# EAGLE library part ATXMEGA128B3 (library atmega-atxmega)
8/16-bit XMEGA B3 Microcontroller Features High-performance, low-power Atmel® AVR® XMEGA® 8/16-bit Microcontroller Nonvolatile program and data memories – 64K - 128KBytes of in-system self-programmable flash – 4K - 8KBytes boot section – 2KBytes EEPROM – 4K - 8KBytes internal SRAM Peripheral Features – Two-channel DMA controller – Four-channel event system – Two 16-bit timer/counters One timer/counter with 4 output compare or input capture channels One timer/counter with 2 output compare or input capture channels High resolution extensions one timer/counter Advanced waveform extension (AWeX) on timer/counter Split mode on timer/counter – One USB device interface USB 2.0 full speed (12Mbps) and low speed (1.5Mbps) device compliant 32 Endpoints with full configuration flexibility – One USART with IrDA support – AES and DES crypto engine – CRC-16 (CRC-CCITT) and CRC-32 (IEEE 802.3) generator – One two-wire interface with dual address match (I2C and SMBus compatible) – One serial peripheral interface (SPI) – 16-bit Real Time Counter (RTC) with separate oscillator – Liquid Crystal Display 4x25 segment driver Built in contrast control ASCII character mappingGra Flexible SWAP of segment and common terminals buses – One eight-channel, 12-bit, 300 thousand SPS Analog to Digital Converter – Two Analog Comparators with window compare function, and current source feature – External interrupts on all General Purpose I/O pins – Programmable watchdog timer with separate on-chip ultra low power oscillator – QTouch® library support Capacitive touch buttons, sliders and wheels Special microcontroller features – Power-on reset and programmable brown-out detection – Internal and external clock options with PLL – Programmable multilevel interrupt controller – Five sleep modes – Programming and debug interfaces JTAG (IEEE 1149.1 Compliant) interface, including boundary scan PDI (Program and Debug Interface) I/O and Packages – 36 Programmable I/O pins – 64 - lead TQFP – 64 - pad QFN Operating Voltage – 1.6 – 3.6V Operating frequency – 0 – 12MHz from 1.6V – 0 – 32MHz from 2.7V
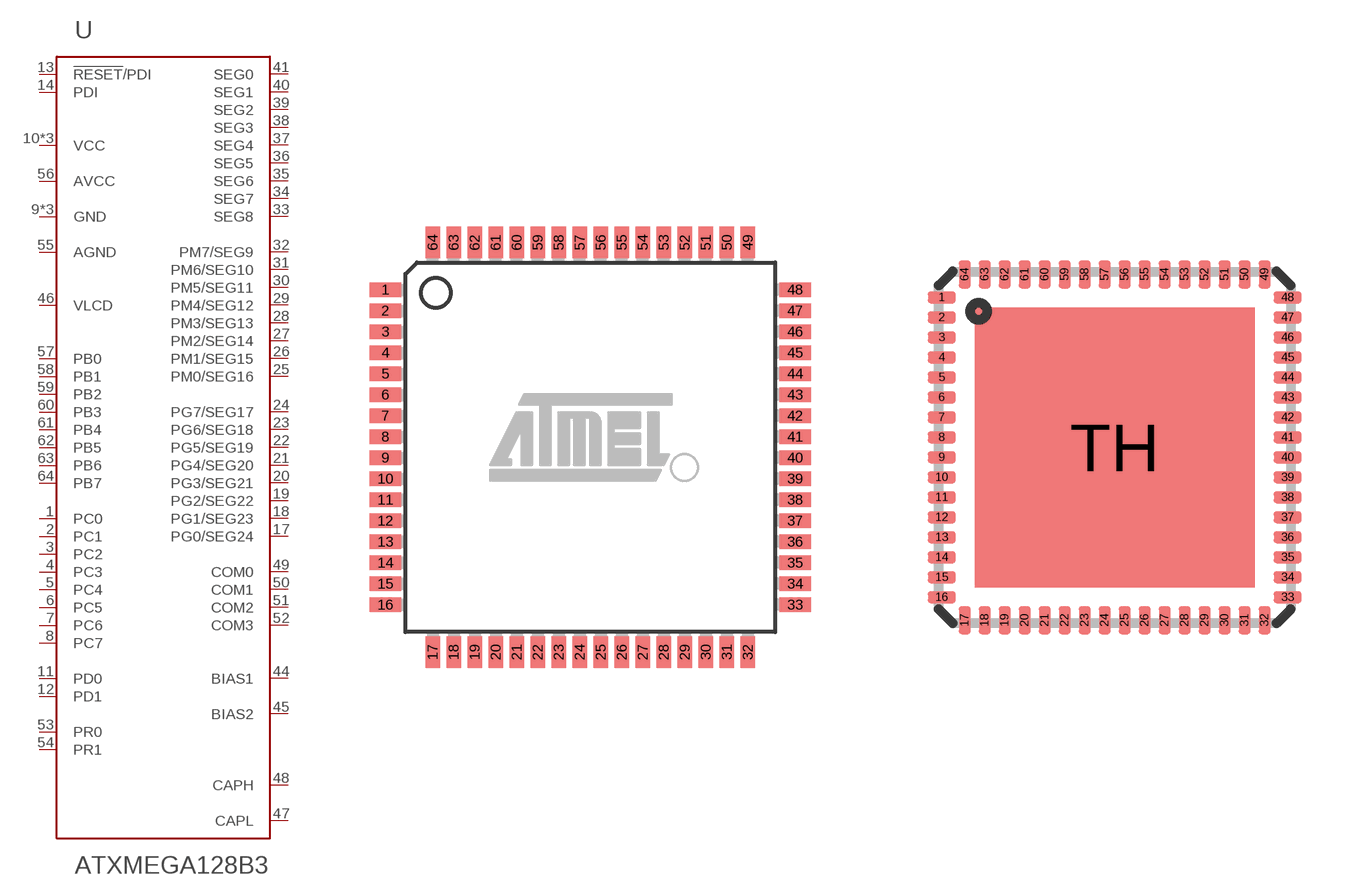
[diagram p123: symbol with the pads of TQFP-64A-64; footprints TQFP-64A-64, MLF-(VQFN)-64M2-64]

Designator prefix U

## ATXMEGA128B3-AU  [TQFP-64A-64]
1  PC0
2  PC1
3  PC2
4  PC3
5  PC4
6  PC5
7  PC6
8  PC7
9  GND  pwr
10  VCC  pwr
11  PD0
12  PD1
13  !RESET!/PDI
14  PDI
15  GND  pwr
16  VCC  pwr
17  PG0/SEG24
18  PG1/SEG23
19  PG2/SEG22
20  PG3/SEG21
21  PG4/SEG20
22  PG5/SEG19
23  PG6/SEG18
24  PG7/SEG17
25  PM0/SEG16
26  PM1/SEG15
27  PM2/SEG14
28  PM3/SEG13
29  PM4/SEG12
30  PM5/SEG11
31  PM6/SEG10
32  PM7/SEG9
33  SEG8
34  SEG7
35  SEG6
36  SEG5
37  SEG4
38  SEG3
39  SEG2
40  SEG1
41  SEG0
42  GND  pwr
43  VCC  pwr
44  BIAS1
45  BIAS2
46  VLCD
47  CAPL
48  CAPH
49  COM0
50  COM1
51  COM2
52  COM3
53  PR0
54  PR1
55  AGND  pwr
56  AVCC  pwr
57  PB0
58  PB1
59  PB2
60  PB3
61  PB4
62  PB5
63  PB6
64  PB7

## ATXMEGA128B3-MH  [MLF-(VQFN)-64M2-64]
1  PC0
2  PC1
3  PC2
4  PC3
5  PC4
6  PC5
7  PC6
8  PC7
9  GND  pwr
10  VCC  pwr
11  PD0
12  PD1
13  !RESET!/PDI
14  PDI
15  GND  pwr
16  VCC  pwr
17  PG0/SEG24
18  PG1/SEG23
19  PG2/SEG22
20  PG3/SEG21
21  PG4/SEG20
22  PG5/SEG19
23  PG6/SEG18
24  PG7/SEG17
25  PM0/SEG16
26  PM1/SEG15
27  PM2/SEG14
28  PM3/SEG13
29  PM4/SEG12
30  PM5/SEG11
31  PM6/SEG10
32  PM7/SEG9
33  SEG8
34  SEG7
35  SEG6
36  SEG5
37  SEG4
38  SEG3
39  SEG2
40  SEG1
41  SEG0
42  GND  pwr
43  VCC  pwr
44  BIAS1
45  BIAS2
46  VLCD
47  CAPL
48  CAPH
49  COM0
50  COM1
51  COM2
52  COM3
53  PR0
54  PR1
55  AGND  pwr
56  AVCC  pwr
57  PB0
58  PB1
59  PB2
60  PB3
61  PB4
62  PB5
63  PB6
64  PB7
TH  GND  pwr

## Footprint TQFP-64A-64 (pad centres in mm)
64A, 64-lead, 14 x 14 mm Body Size, 1.0 mm Body Thickness, 0.8 mm Lead Pitch, Thin Profile Plastic Quad Flat Package (TQFP)
smd 1.194 x 0.559: 1 -7.8,6; 2 -7.8,5.2; 3 -7.8,4.4; 4 -7.8,3.6; 5 -7.8,2.8; 6 -7.8,2; 7 -7.8,1.2; 8 -7.8,0.4; 9 -7.8,-0.4; 10 -7.8,-1.2; 11 -7.8,-2; 12 -7.8,-2.8; 13 -7.8,-3.6; 14 -7.8,-4.4; 15 -7.8,-5.2; 16 -7.8,-6; 33 7.8,-6; 34 7.8,-5.2; 35 7.8,-4.4; 36 7.8,-3.6; 37 7.8,-2.8; 38 7.8,-2; 39 7.8,-1.2; 40 7.8,-0.4; 41 7.8,0.4; 42 7.8,1.2; 43 7.8,2; 44 7.8,2.8; 45 7.8,3.6; 46 7.8,4.4; 47 7.8,5.2; 48 7.8,6
smd 0.559 x 1.194: 17 -6,-7.8; 18 -5.2,-7.8; 19 -4.4,-7.8; 20 -3.6,-7.8; 21 -2.8,-7.8; 22 -2,-7.8; 23 -1.2,-7.8; 24 -0.4,-7.8; 25 0.4,-7.8; 26 1.2,-7.8; 27 2,-7.8; 28 2.8,-7.8; 29 3.6,-7.8; 30 4.4,-7.8; 31 5.2,-7.8; 32 6,-7.8; 49 6,7.8; 50 5.2,7.8; 51 4.4,7.8; 52 3.6,7.8; 53 2.8,7.8; 54 2,7.8; 55 1.2,7.8; 56 0.4,7.8; 57 -0.4,7.8; 58 -1.2,7.8; 59 -2,7.8; 60 -2.8,7.8; 61 -3.6,7.8; 62 -4.4,7.8; 63 -5.2,7.8; 64 -6,7.8

## Footprint MLF-(VQFN)-64M2-64 (pad centres in mm)
64M2, 64-pad, 9 x 9 x 1.0 mm Body, Lead Pitch 0.50 mm, 7.65 mm Exposed Pad, Micro Lead Frame Package (MLF)
smd 0.7 x 0.3: 1 -4.325,3.75; 2 -4.325,3.25; 3 -4.325,2.75; 4 -4.325,2.25; 5 -4.325,1.75; 6 -4.325,1.25; 7 -4.325,0.75; 8 -4.325,0.25; 9 -4.325,-0.25; 10 -4.325,-0.75; 11 -4.325,-1.25; 12 -4.325,-1.75; 13 -4.325,-2.25; 14 -4.325,-2.75; 15 -4.325,-3.25; 16 -4.325,-3.75; 33 4.325,-3.75; 34 4.325,-3.25; 35 4.325,-2.75; 36 4.325,-2.25; 37 4.325,-1.75; 38 4.325,-1.25; 39 4.325,-0.75; 40 4.325,-0.25; 41 4.325,0.25; 42 4.325,0.75; 43 4.325,1.25; 44 4.325,1.75; 45 4.325,2.25; 46 4.325,2.75; 47 4.325,3.25; 48 4.325,3.75
smd 0.3 x 0.7: 17 -3.75,-4.325; 18 -3.25,-4.325; 19 -2.75,-4.325; 20 -2.25,-4.325; 21 -1.75,-4.325; 22 -1.25,-4.325; 23 -0.75,-4.325; 24 -0.25,-4.325; 25 0.25,-4.325; 26 0.75,-4.325; 27 1.25,-4.325; 28 1.75,-4.325; 29 2.25,-4.325; 30 2.75,-4.325; 31 3.25,-4.325; 32 3.75,-4.325; 49 3.75,4.325; 50 3.25,4.325; 51 2.75,4.325; 52 2.25,4.325; 53 1.75,4.325; 54 1.25,4.325; 55 0.75,4.325; 56 0.25,4.325; 57 -0.25,4.325; 58 -0.75,4.325; 59 -1.25,4.325; 60 -1.75,4.325; 61 -2.25,4.325; 62 -2.75,4.325; 63 -3.25,4.325; 64 -3.75,4.325
smd 7 x 7: TH 0,0